# EAGLE library part 3341 (library APA102)
DotStar Micro LEDs (APA102–2020) - Smart SMD RGB LED - 10 pack
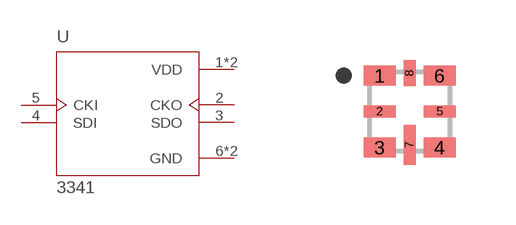
[diagram p0: symbol with the pads of LED_3341; footprint LED_3341]

Designator prefix U

## 3341 (AVAILABILITY: Unavailable; DESCRIPTION: APA102-2020-256-8 is a type ic for the three-color RGB Diming control strip and string.; MF: Adafruit Industries; MP: APA-102-2020-256-8; PACKAGE: SOIC-20 Adafruit Industries; PRICE: None)  [LED_3341]
1  VDD  pwr
2  CKO  out
3  SDO  out
4  SDI  in
5  CKI  in
6  GND  pwr
7  GND  pwr
8  VDD  pwr

## Footprint LED_3341 (pad centres in mm)
smd 0.8 x 0.5: 1 -0.75,0.9; 3 -0.75,-0.9; 4 0.75,-0.9; 6 0.75,0.9
smd 0.8 x 0.3: 2 -0.75,0; 5 0.75,0
smd 0.3 x 1: 7 0,-0.83
smd 0.3 x 0.66: 8 0,0.965